# Altium schematic symbol library STM32H725RGV3.SchLib: 1 symbol
Pins are listed as number, name and electrical type; pins without a type are passive.

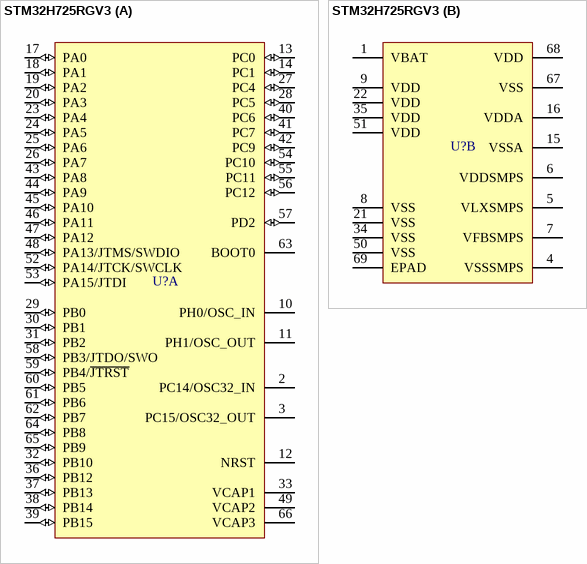
[diagram p0: symbol STM32H725RGV3]

## STM32H725RGV3
designator U?
part A pins: 2 PC14/OSC32_IN, 3 PC15/OSC32_OUT, 10 PH0/OSC_IN, 11 PH1/OSC_OUT, 12 NRST, 13 PC0 (io), 14 PC1 (io), 17 PA0 (io), 18 PA1 (io), 19 PA2 (io), 20 PA3 (io), 23 PA4 (io), 24 PA5 (io), 25 PA6 (io), 26 PA7 (io), 27 PC4 (io), 28 PC5 (io), 29 PB0 (io), 30 PB1 (io), 31 PB2 (io), 32 PB10 (io), 33 VCAP1, 36 PB12 (io), 37 PB13 (io), 38 PB14 (io), 39 PB15 (io), 40 PC6 (io), 41 PC7 (io), 42 PC9 (io), 43 PA8 (io), 44 PA9 (io), 45 PA10 (io), 46 PA11 (io), 47 PA12 (io), 48 PA13/JTMS/SWDIO (io), 49 VCAP2, 52 PA14/JTCK/SWCLK (io), 53 PA15/JTDI (io), 54 PC10 (io), 55 PC11 (io), 56 PC12 (io), 57 PD2 (io), 58 PB3/JTDO/SWO (io), 59 PB4/~{JTRST} (io), 60 PB5 (io), 61 PB6 (io), 62 PB7 (io), 63 BOOT0, 64 PB8 (io), 65 PB9 (io), 66 VCAP3
part B pins: 1 VBAT (power), 4 VSSSMPS (power), 5 VLXSMPS, 6 VDDSMPS (power), 7 VFBSMPS, 8 VSS (power), 9 VDD (power), 15 VSSA (power), 16 VDDA (power), 21 VSS (power), 22 VDD (power), 34 VSS (power), 35 VDD (power), 50 VSS (power), 51 VDD (power), 67 VSS (power), 68 VDD (power), 69 EPAD